# EAGLE library part IS41*16257 (library IC)
126-015: IS4116257 DRAM, 256Kx16, FPM
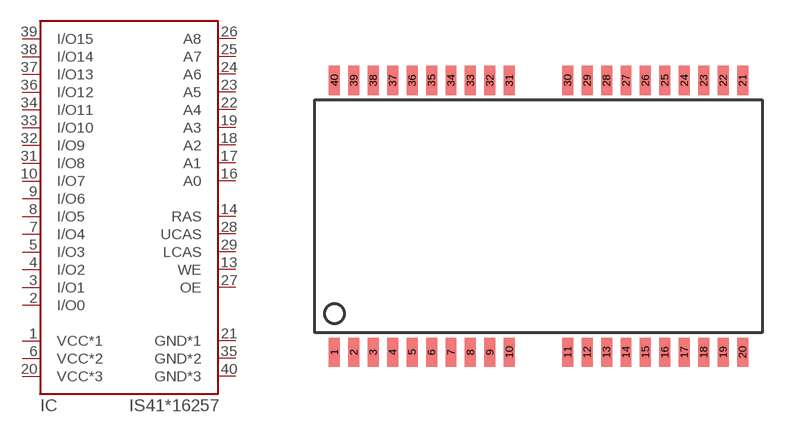
[diagram p7: symbol with the pads of TSOP40-II; footprint TSOP40-II]

Designator prefix IC

## IS4116257-T  [TSOP40-II]
1  VCC*1  pwr
2  I/O0
3  I/O1
4  I/O2
5  I/O3
6  VCC*2  pwr
7  I/O4
8  I/O5
9  I/O6
10  I/O7
13  WE
14  RAS
16  A0
17  A1
18  A2
19  A3
20  VCC*3  pwr
21  GND*1  pwr
22  A4
23  A5
24  A6
25  A7
26  A8
27  OE
28  UCAS
29  LCAS
31  I/O8
32  I/O9
33  I/O10
34  I/O11
35  GND*2  pwr
36  I/O12
37  I/O13
38  I/O14
39  I/O15
40  GND*3  pwr

## Footprint TSOP40-II (pad centres in mm)
TSOP-Type II, 40 pin
smd 0.45 x 1.2: 1 -8.4,-5.6; 2 -7.6,-5.6; 3 -6.8,-5.6; 4 -6,-5.6; 5 -5.2,-5.6; 6 -4.4,-5.6; 7 -3.6,-5.6; 8 -2.8,-5.6; 9 -2,-5.6; 10 -1.2,-5.6; 11 1.2,-5.6; 12 2,-5.6; 13 2.8,-5.6; 14 3.6,-5.6; 15 4.4,-5.6; 16 5.2,-5.6; 17 6,-5.6; 18 6.8,-5.6; 19 7.6,-5.6; 20 8.4,-5.6; 21 8.4,5.6; 22 7.6,5.6; 23 6.8,5.6; 24 6,5.6; 25 5.2,5.6; 26 4.4,5.6; 27 3.6,5.6; 28 2.8,5.6; 29 2,5.6; 30 1.2,5.6; 31 -1.2,5.6; 32 -2,5.6; 33 -2.8,5.6; 34 -3.6,5.6; 35 -4.4,5.6; 36 -5.2,5.6; 37 -6,5.6; 38 -6.8,5.6; 39 -7.6,5.6; 40 -8.4,5.6